# Altium footprint library Vishay.PcbLib: 1 footprints
Each footprint in its own frame and in the unit in brackets; x right, y up, seen from the top. Pads: shape width x height; smd on the part's side, far side on the other; paste and mask are expansions set on the pad; w line width, h text height; cw(c..) or ccw(c..) is an arc to the next point about the centre after c.
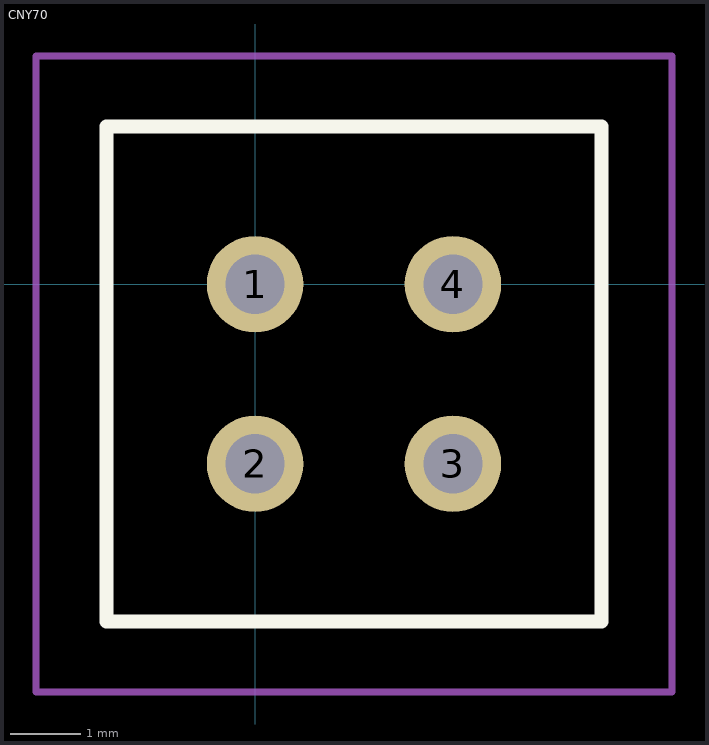
[diagram p0: the footprint, top view; thin cyan lines are the x and y axes]

## CNY70 [mm]
pads (4):
  round 1.365 hole 0.84: 1(0,0) 2(0,-2.54) 3(2.8,-2.54) 4(2.8,0)
Top Overlay:
  lines w0.2: -2.1,-4.77 -2.1,2.23 4.9,2.23 4.9,-4.77 -2.1,-4.77
Mechanical 13:
  lines w0.1: -2.1,-4.77 -2.1,2.23 4.9,2.23 4.9,-4.77 -2.1,-4.77
Mechanical 15:
  lines w0.1: -3.1,-5.77 -3.1,3.23 5.9,3.23 5.9,-5.77 -3.1,-5.77
3D body "CNY70.stp": height 6.16, standoff -5.84, extent -2.1,-4.77 4.9,2.23